# Altium integrated library SDT20B100D1.IntLib: 1 symbol
Pins are listed as number, name and electrical type; pins without a type are passive.

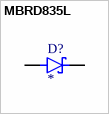
[diagram p0: symbol MBRD835L]

## MBRD835L
designator D?
Diode Schottky 35 V 8A Surface Mount DPAK; MF: ON Semiconductor; MP: MBRD835L; SnapEDA_Link: https://www.snapeda.com/parts/MBRD835L/Onsemi/view-part/?ref=snap; Package: TO-252-3 MICROSS/On Semiconductor; Value: *; Check_prices: https://www.snapeda.com/parts/MBRD835L/Onsemi/view-part/?ref=eda
footprint DPAK229P990X238-3N
pins: 1 A, 3 A__1, 4 K